# Altium integrated library WE-CNSW HF SMD Common Mode Line Filter (High Frequency).IntLib: 3 symbols
Pins are listed as number, name and electrical type; pins without a type are passive.

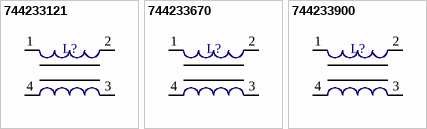
[diagram p0: symbols 744233121 to 744233900]

## 744233121
designator L?
SMD Common Mode Noise Suppressor WE-CNSW HF,  Z= 120 Ohm; PartNumber: 744233121; Impedance: 120 Ohm; PackageReference: WE-CNSW, 0805; ComponentLink1Description: Manufacturer URL; ComponentLink1URL: http://www.we-online.com; ComponentLink2Description: Datasheet; ComponentLink2URL: http://www.we-online.de/katalog/media/pdf/744233121.pdf
footprint WE-CNSW, 0805 (SMD Inductor, 4-Leads, Body 1,4x2,2mm)
pins: 1, 2, 3, 4

## 744233670
designator L?
SMD Common Mode Noise Suppressor WE-CNSW HF,  Z= 67 Ohm; PartNumber: 744233670; Impedance: 67 Ohm; PackageReference: WE-CNSW, 0805; ComponentLink1Description: Manufacturer URL; ComponentLink1URL: http://www.we-online.com; ComponentLink2Description: Datasheet; ComponentLink2URL: http://www.we-online.de/katalog/media/pdf/744233670.pdf
footprint WE-CNSW, 0805 (SMD Inductor, 4-Leads, Body 1,4x2,2mm)
pins: 1, 2, 3, 4

## 744233900
designator L?
SMD Common Mode Noise Suppressor WE-CNSW HF,  Z= 90 Ohm; PartNumber: 744233900; Impedance: 90 Ohm; PackageReference: WE-CNSW, 0805; ComponentLink1Description: Manufacturer URL; ComponentLink1URL: http://www.we-online.com; ComponentLink2Description: Datasheet; ComponentLink2URL: http://www.we-online.de/katalog/media/pdf/744233900.pdf
footprint WE-CNSW, 0805 (SMD Inductor, 4-Leads, Body 1,4x2,2mm)
pins: 1, 2, 3, 4